# Altium footprint library Flex-pad-5.7mm-SMT.PcbLib: 1 footprints
Each footprint in its own frame and in the unit in brackets; x right, y up, seen from the top. Pads: shape width x height; smd on the part's side, far side on the other; paste and mask are expansions set on the pad; w line width, h text height; cw(c..) or ccw(c..) is an arc to the next point about the centre after c.
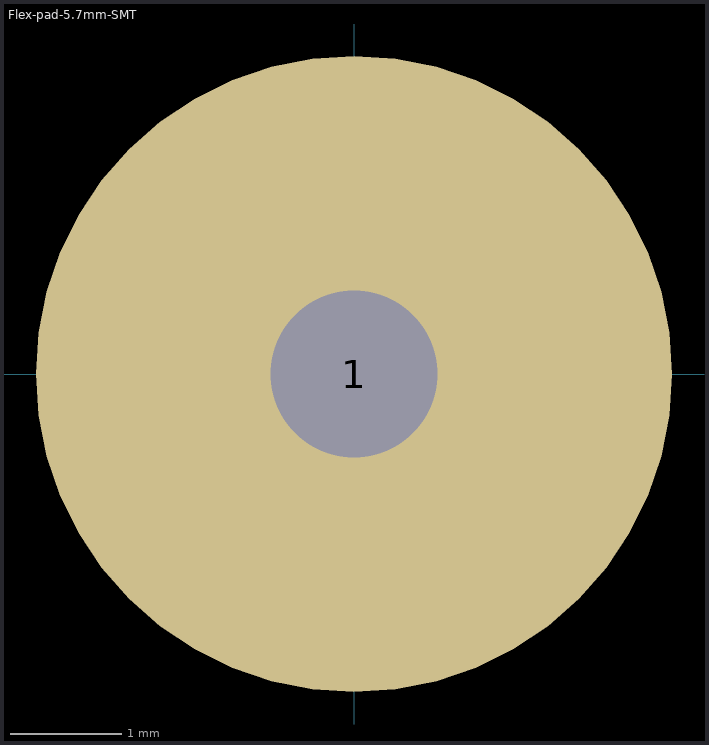
[diagram p0: the footprint, top view; thin cyan lines are the x and y axes]

## Flex-pad-5.7mm-SMT [mm]
pads (1):
  round 5.7 / inner round 2 / far side round 2 hole 1.5 paste-999 mask-0.1: 1(0,0)
Top Paste:
  region: -2.54,0.635 -2.493,0.851 -2.328,1.261 -2.095,1.637 -1.803,1.968 -1.459,2.245 -1.073,2.461 -0.656,2.608 -0.221,2.682 0.221,2.682 0.656,2.608 1.073,2.461 1.459,2.245 1.803,1.968 2.095,1.637 2.328,1.261 2.493,0.851 2.54,0.635
  region: 2.54,-0.635 2.493,-0.851 2.328,-1.261 2.095,-1.637 1.803,-1.968 1.459,-2.245 1.073,-2.461 0.656,-2.608 0.221,-2.682 -0.221,-2.682 -0.656,-2.608 -1.073,-2.461 -1.459,-2.245 -1.803,-1.968 -2.095,-1.637 -2.328,-1.261 -2.493,-0.851 -2.54,-0.635